# Altium schematic symbol library LBP.SchLib: 12 symbols
Pins are listed as number, name and electrical type; pins without a type are passive.

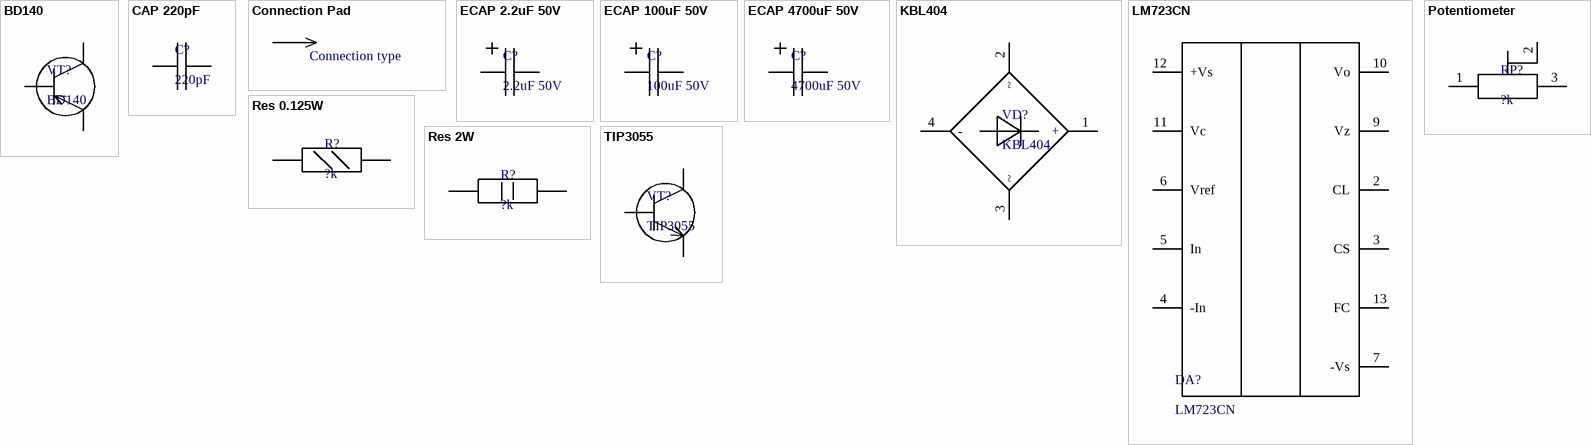
[diagram p0: symbols BD140 to TIP3055]

## BD140
designator VT?
Транзистор PNP / BD140 80В 1.5А TO-126 / (STMicroelectronics, Франция)
footprint TO-126 (ÊÒ-27)
pins: 1 B "База", 2 C "Эмиттер", 3 E "Коллектор"

## CAP 220pF
designator C?, comment 220pF
Конденсатор керамический / RDE5C1H221J 220пФ 50В 10% / (Murata Electronics, Япония)
footprint CAP 220pF
pins: 1, 2

## Connection Pad
designator O?, comment Connection type
footprint Connection Pad
pins: 1

## ECAP 2.2uF 50V
designator C?, comment 2.2uF 50V
Конденсатор электролитический / TKR2R2M2VE11 2.2мкФ 50В 20% / (Jamicon, США)
footprint ECAP 2.2uF 50V
pins: 1, 2

## ECAP 100uF 50V
designator C?, comment 100uF 50V
Конденсатор электролитический / B41851A6107M000 100мкФ 50В 20% / (EPCOS, Германия)
footprint ECAP 100uF 50V
pins: 1, 2

## ECAP 4700uF 50V
designator C?, comment 4700uF 50V
Конденсатор электролитический / B41252C6478M000 4700мкФ 50В 20% / (EPCOS, Германия)
footprint ECAP 4700uF 50V
pins: 1, 2

## KBL404
designator VD?
Диодный мост / KDL404 4А 400В
footprint KBL
pins: 1 +, 2 ~, 3 ~, 4 -

## LM723CN
designator DA?
Регулятор напряжения / LM723CN 2В...37В 150мА / (STMicroelectronics, Франция)
footprint Dip14
pins: 2 CL, 3 CS, 4 -In, 5 In, 6 Vref, 7 -Vs (power), 9 Vz, 10 Vo, 11 Vc, 12 +Vs (power), 13 FC

## Potentiometer
designator RP?, comment ?k
Потенциометр / 16K1
footprint 16K1
pins: 1, 2, 3

## Res 0.125W
designator R?, comment ?k
Резистор углеродистый / 0.125Вт  Ом 5% / (Тайвань)
footprint Res 0.125W
pins: 1, 2

## Res 2W
designator R?, comment ?k
Резистор углеродистый / 2Вт  Ом 5% / (Тайвань)
footprint Res 2W
pins: 1, 2

## TIP3055
designator VT?
Транзистор NPN / TIP3055 60В 15А TO-247 / (STMicroelectronics, Франция)
footprint TO-247
pins: 1 Б "База", 2 К "Коллектор", 3 Э "Эмиттер"